# EAGLE library part 741-8_S (library MDB_HOME)
CTS 741 Series 8 Terminations, 4 Resistors
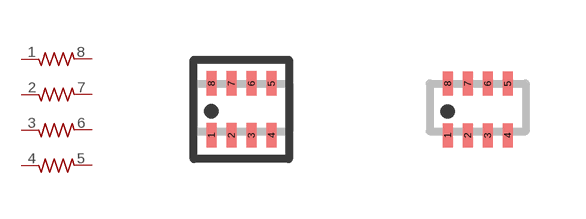
[diagram p11: symbol with the pads of 741-8; footprints 741-8, 741-8NS]

Designator prefix RN; gates A=R1NV B=R1NV C=R1NV D=R1NV

## 741-8_S_1  [741-8]
1  A:1  pas
2  B:1  pas
3  C:1  pas
4  D:1  pas
5  D:2  pas
6  C:2  pas
7  B:2  pas
8  A:2  pas

## 741-8_SNS  [741-8NS]
Pads as for 741-8

## Footprint 741-8 (pad centres in mm)
CTS 741 Series 8 Terminations, 4 Resistors
smd 0.25 x 0.61: 1 -0.75,-0.65; 2 -0.25,-0.65; 3 0.25,-0.65; 4 0.75,-0.65; 5 0.75,0.65; 6 0.25,0.65; 7 -0.25,0.65; 8 -0.75,0.65

## Footprint 741-8NS (pad centres in mm)
CTS 741 Series 8 Terminations, 4 Resistors
smd 0.25 x 0.61: 1 -0.75,-0.65; 2 -0.25,-0.65; 3 0.25,-0.65; 4 0.75,-0.65; 5 0.75,0.65; 6 0.25,0.65; 7 -0.25,0.65; 8 -0.75,0.65